# Altium integrated library Capacitor - Aluminium TH.IntLib: 4591 symbols (part 1 of 68)
Pins are listed as number, name and electrical type; pins without a type are passive.

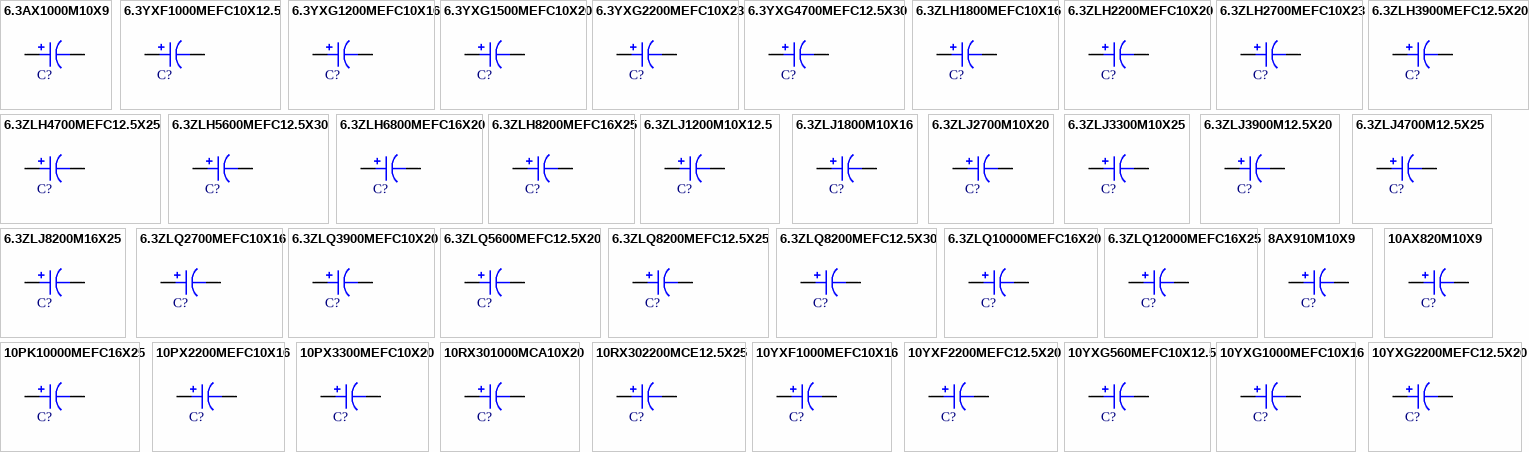
[diagram p0: symbols 6.3AX1000M10X9 to 10YXG2200MEFC12.5X20]

## 6.3AX1000M10X9
designator C?, comment 1000uF  (value not drawn)
CAP ALUM 1000UF 20% 6.3V RADIAL; Part Number: 6.3AX1000M10X9; Manufacturer: Rubycon; TemperatureRange: -40C ~ 105C; Ripple Current: 1.54A; Impedance: 36 mOhm; Value: 1000uF; PartId: 24462; Supplier 1: Digi-Key; Supplier Part Number 1: 1189-2334-ND; ComponentLink1Description: Datasheet; ComponentLink1URL: http://www.rubycon.co.jp/en/catalog/e_pdfs/aluminum/e_ax.pdf; ComponentLink2Description: Digi-Key Listing; ComponentLink2URL: https://www.digikey.com/product-detail/en/rubycon/6.3AX1000M10X9/1189-2334-ND/4842271; Tolerance: 20%; Voltage: 6.3V; Price: 0.52; Device Package: Radial, Can, 10mm
footprint CAP AL TH D10 L5 H12.5
pins: 1, 2

## 6.3YXF1000MEFC10X12.5
designator C?, comment 1000uF  (value not drawn)
CAP ALUM 1000UF 20% 6.3V RADIAL; Part Number: 6.3YXF1000MEFC10X12.5; Manufacturer: Rubycon; TemperatureRange: -40C ~ 105C; Type: Polar; Ripple Current: 435mA; Impedance: 160 mOhm; Value: 1000uF; PartId: 24942; Supplier 1: Digi-Key; Supplier Part Number 1: 1189-2347-ND; ComponentLink1Description: Datasheet; ComponentLink1URL: http://www.rubycon.co.jp/en/catalog/e_pdfs/aluminum/e_yxf.pdf; ComponentLink2Description: Digi-Key Listing; ComponentLink2URL: https://www.digikey.com/product-detail/en/rubycon/6.3YXF1000MEFC10X12.5/1189-2347-ND/3563582; Tolerance: 20%; Voltage: 6.3V; Price: 0.51; Device Package: Radial, Can, 10mm
footprint CAP AL TH D10 L5 H14.5
pins: 1, 2

## 6.3YXG1200MEFC10X16
designator C?, comment 1200uF  (value not drawn)
CAP ALUM 1200UF 20% 6.3V RADIAL; Part Number: 6.3YXG1200MEFC10X16; Manufacturer: Rubycon; TemperatureRange: -40C ~ 105C; Type: Polar; Ripple Current: 726mA @ 120Hz; Impedance: 60 mOhm; Value: 1200uF; PartId: 25225; Supplier 1: Digi-Key; Supplier Part Number 1: 1189-1445-ND; ComponentLink1Description: Datasheet; ComponentLink1URL: http://www.rubycon.co.jp/en/catalog/e_pdfs/aluminum/e_yxg.pdf; ComponentLink2Description: Digi-Key Listing; ComponentLink2URL: https://www.digikey.com/product-detail/en/rubycon/6.3YXG1200MEFC10X16/1189-1445-ND/3134401; Tolerance: 20%; Voltage: 6.3V; Price: 0.54; Device Package: Radial, Can, 10mm
footprint CAP AL TH D10 L5 H17.5
pins: 1, 2

## 6.3YXG1500MEFC10X20
designator C?, comment 1500uF  (value not drawn)
CAP ALUM 1500UF 20% 6.3V RADIAL; Part Number: 6.3YXG1500MEFC10X20; Manufacturer: Rubycon; TemperatureRange: -40C ~ 105C; Type: Polar; Ripple Current: 840mA @ 120Hz; Impedance: 46 mOhm; Value: 1500uF; PartId: 25864; Supplier 1: Digi-Key; Supplier Part Number 1: 1189-1760-ND; ComponentLink1Description: Datasheet; ComponentLink1URL: http://www.rubycon.co.jp/en/catalog/e_pdfs/aluminum/e_yxg.pdf; ComponentLink2Description: Digi-Key Listing; ComponentLink2URL: https://www.digikey.com/product-detail/en/rubycon/6.3YXG1500MEFC10X20/1189-1760-ND/3563793; Tolerance: 20%; Voltage: 6.3V; Price: 0.62; Device Package: Radial, Can, 10mm
footprint CAP AL TH D10 L5 H22
pins: 1, 2

## 6.3YXG2200MEFC10X23
designator C?, comment 2200uF  (value not drawn)
CAP ALUM 2200UF 20% 6.3V RADIAL; Part Number: 6.3YXG2200MEFC10X23; Manufacturer: Rubycon; TemperatureRange: -40C ~ 105C; Type: Polar; Ripple Current: 1.155A @ 120Hz; Impedance: 42 mOhm; Value: 2200uF; PartId: 26085; Supplier 1: Digi-Key; Supplier Part Number 1: 1189-1761-ND; ComponentLink1Description: Datasheet; ComponentLink1URL: http://www.rubycon.co.jp/en/catalog/e_pdfs/aluminum/e_yxg.pdf; ComponentLink2Description: Digi-Key Listing; ComponentLink2URL: https://www.digikey.com/product-detail/en/rubycon/6.3YXG2200MEFC10X23/1189-1761-ND/3563837; Tolerance: 20%; Voltage: 6.3V; Price: 0.73; Device Package: Radial, Can, 10mm
footprint CAP AL TH D10 L5 H30
pins: 1, 2

## 6.3YXG4700MEFC12.5X30
designator C?, comment 4700uF  (value not drawn)
CAP ALUM 4700UF 20% 6.3V RADIAL; Part Number: 6.3YXG4700MEFC12.5X30; Manufacturer: Rubycon; TemperatureRange: -40C ~ 105C; Type: Polar; Ripple Current: 1.855A @ 120Hz; Impedance: 24 mOhm; Value: 4700uF; PartId: 24228; Supplier 1: Digi-Key; Supplier Part Number 1: 1189-2909-ND; ComponentLink1Description: Datasheet; ComponentLink1URL: http://www.rubycon.co.jp/en/catalog/e_pdfs/aluminum/e_yxg.pdf; ComponentLink2Description: Digi-Key Listing; ComponentLink2URL: https://www.digikey.com/product-detail/en/rubycon/6.3YXG4700MEFC12.5X30/1189-2909-ND/3564176; Tolerance: 20%; Voltage: 6.3V; Price: 0.97; Device Package: Radial, Can, 12.5mm
footprint CAP AL TH D12.5 L5 H35.5
pins: 1, 2

## 6.3ZLH1800MEFC10X16
designator C?, comment 1800uF  (value not drawn)
CAP ALUM 1800UF 20% 6.3V RADIAL; Part Number: 6.3ZLH1800MEFC10X16; Manufacturer: Rubycon; TemperatureRange: -40C ~ 105C; Type: Polar; Ripple Current: 1.056A; Impedance: 28 mOhm; Value: 1800uF; PartId: 25263; Supplier 1: Digi-Key; Supplier Part Number 1: 1189-1454-ND; ComponentLink1Description: Datasheet; ComponentLink1URL: http://www.rubycon.co.jp/en/catalog/e_pdfs/aluminum/e_zlh.pdf; ComponentLink2Description: Digi-Key Listing; ComponentLink2URL: https://www.digikey.com/product-detail/en/rubycon/6.3ZLH1800MEFC10X16/1189-1454-ND/3134410; Tolerance: 20%; Voltage: 6.3V; Price: 0.59; Device Package: Radial, Can, 10mm
footprint CAP AL TH D10 L5 H17.5
pins: 1, 2

## 6.3ZLH2200MEFC10X20
designator C?, comment 2200uF  (value not drawn)
CAP ALUM 2200UF 20% 6.3V RADIAL; Part Number: 6.3ZLH2200MEFC10X20; Manufacturer: Rubycon; TemperatureRange: -40C ~ 105C; Type: Polar; Ripple Current: 1.372A; Impedance: 20 mOhm; Value: 2200uF; PartId: 25845; Supplier 1: Digi-Key; Supplier Part Number 1: 1189-1455-ND; ComponentLink1Description: Datasheet; ComponentLink1URL: http://www.rubycon.co.jp/en/catalog/e_pdfs/aluminum/e_zlh.pdf; ComponentLink2Description: Digi-Key Listing; ComponentLink2URL: https://www.digikey.com/product-detail/en/rubycon/6.3ZLH2200MEFC10X20/1189-1455-ND/3134411; Tolerance: 20%; Voltage: 6.3V; Price: 0.52; Device Package: Radial, Can, 10mm
footprint CAP AL TH D10 L5 H22
pins: 1, 2

## 6.3ZLH2700MEFC10X23
designator C?, comment 2700uF  (value not drawn)
CAP ALUM 2700UF 20% 6.3V RADIAL; Part Number: 6.3ZLH2700MEFC10X23; Manufacturer: Rubycon; TemperatureRange: -40C ~ 105C; Type: Polar; Ripple Current: 1.575A @ 120Hz; Impedance: 18 mOhm; Value: 2700uF; PartId: 26057; Supplier 1: Digi-Key; Supplier Part Number 1: 1189-3020-ND; ComponentLink1Description: Datasheet; ComponentLink1URL: http://www.rubycon.co.jp/en/catalog/e_pdfs/aluminum/e_zlh.pdf; ComponentLink2Description: Digi-Key Listing; ComponentLink2URL: https://www.digikey.com/product-detail/en/rubycon/6.3ZLH2700MEFC10X23/1189-3020-ND/3563864; Tolerance: 20%; Voltage: 6.3V; Price: 0.66; Device Package: Radial, Can, 10mm
footprint CAP AL TH D10 L5 H30
pins: 1, 2

## 6.3ZLH3900MEFC12.5X20
designator C?, comment 3900uF  (value not drawn)
CAP ALUM 3900UF 20% 6.3V RADIAL; Part Number: 6.3ZLH3900MEFC12.5X20; Manufacturer: Rubycon; TemperatureRange: -40C ~ 105C; Type: Polar; Ripple Current: 1.736A; Impedance: 17 mOhm; Value: 3900uF; PartId: 23353; Supplier 1: Digi-Key; Supplier Part Number 1: 1189-1763-ND; ComponentLink1Description: Datasheet; ComponentLink1URL: http://www.rubycon.co.jp/en/catalog/e_pdfs/aluminum/e_zlh.pdf; ComponentLink2Description: Digi-Key Listing; ComponentLink2URL: https://www.digikey.com/product-detail/en/rubycon/6.3ZLH3900MEFC12.5X20/1189-1763-ND/3564061; Tolerance: 20%; Voltage: 6.3V; Price: 0.85; Device Package: Radial, Can, 12.5mm
footprint CAP AL TH D12.5 L5 H22
pins: 1, 2

## 6.3ZLH4700MEFC12.5X25
designator C?, comment 4700uF  (value not drawn)
CAP ALUM 4700UF 20% 6.3V RADIAL; Part Number: 6.3ZLH4700MEFC12.5X25; Manufacturer: Rubycon; TemperatureRange: -40C ~ 105C; Type: Polar; Ripple Current: 2.03A; Impedance: 15 mOhm; Value: 4700uF; PartId: 23936; Supplier 1: Digi-Key; Supplier Part Number 1: 1189-1457-ND; ComponentLink1Description: Datasheet; ComponentLink1URL: http://www.rubycon.co.jp/en/catalog/e_pdfs/aluminum/e_zlh.pdf; ComponentLink2Description: Digi-Key Listing; ComponentLink2URL: https://www.digikey.com/product-detail/en/rubycon/6.3ZLH4700MEFC12.5X25/1189-1457-ND/3134413; Tolerance: 20%; Voltage: 6.3V; Price: 0.97; Device Package: Radial, Can, 12.5mm
footprint CAP AL TH D12.5 L5 H27
pins: 1, 2

## 6.3ZLH5600MEFC12.5X30
designator C?, comment 5600uF  (value not drawn)
CAP ALUM 5600UF 20% 6.3V RADIAL; Part Number: 6.3ZLH5600MEFC12.5X30; Manufacturer: Rubycon; TemperatureRange: -40C ~ 105C; Type: Polar; Ripple Current: 2.415A @ 120Hz; Impedance: 13 mOhm; Value: 5600uF; PartId: 24267; Supplier 1: Digi-Key; Supplier Part Number 1: 1189-3021-ND; ComponentLink1Description: Datasheet; ComponentLink1URL: http://www.rubycon.co.jp/en/catalog/e_pdfs/aluminum/e_zlh.pdf; ComponentLink2Description: Digi-Key Listing; ComponentLink2URL: https://www.digikey.com/product-detail/en/rubycon/6.3ZLH5600MEFC12.5X30/1189-3021-ND/3564201; Tolerance: 20%; Voltage: 6.3V; Price: 1.05; Device Package: Radial, Can, 12.5mm
footprint CAP AL TH D12.5 L5 H35.5
pins: 1, 2

## 6.3ZLH6800MEFC16X20
designator C?, comment 6800uF  (value not drawn)
CAP ALUM 6800UF 20% 6.3V RADIAL; Part Number: 6.3ZLH6800MEFC16X20; Manufacturer: Rubycon; TemperatureRange: -40C ~ 105C; Type: Polar; Ripple Current: 2.275A @ 120Hz; Impedance: 15 mOhm; Value: 6800uF; PartId: 26422; Supplier 1: Digi-Key; Supplier Part Number 1: 1189-3023-ND; ComponentLink1Description: Datasheet; ComponentLink1URL: http://www.rubycon.co.jp/en/catalog/e_pdfs/aluminum/e_zlh.pdf; ComponentLink2Description: Digi-Key Listing; ComponentLink2URL: https://www.digikey.com/product-detail/en/rubycon/6.3ZLH6800MEFC16X20/1189-3023-ND/3564403; Tolerance: 20%; Voltage: 6.3V; Price: 1.24; Device Package: Radial, Can, 16mm
footprint CAP AL TH D16 L7.5 H22
pins: 1, 2

## 6.3ZLH8200MEFC16X25
designator C?, comment 8200uF  (value not drawn)
CAP ALUM 8200UF 20% 6.3V RADIAL; Part Number: 6.3ZLH8200MEFC16X25; Manufacturer: Rubycon; TemperatureRange: -40C ~ 105C; Type: Polar; Ripple Current: 2.541A @ 120Hz; Impedance: 13 mOhm; Value: 8200uF; PartId: 26894; Supplier 1: Digi-Key; Supplier Part Number 1: 1189-3024-ND; ComponentLink1Description: Datasheet; ComponentLink1URL: http://www.rubycon.co.jp/en/catalog/e_pdfs/aluminum/e_zlh.pdf; ComponentLink2Description: Digi-Key Listing; ComponentLink2URL: https://www.digikey.com/product-detail/en/rubycon/6.3ZLH8200MEFC16X25/1189-3024-ND/3564488; Tolerance: 20%; Voltage: 6.3V; Price: 1.43; Device Package: Radial, Can, 16mm
footprint CAP AL TH D16 L7.5 H27
pins: 1, 2

## 6.3ZLJ1200M10X12.5
designator C?, comment 1200uF  (value not drawn)
CAP ALUM 1200UF 20% 6.3V RADIAL; Part Number: 6.3ZLJ1200M10X12.5; Manufacturer: Rubycon; TemperatureRange: -40C ~ 105C; Type: Polar; Ripple Current: 798mA @ 120Hz; Impedance: 53 mOhm; Value: 1200uF; PartId: 24923; Supplier 1: Digi-Key; Supplier Part Number 1: 1189-1461-ND; ComponentLink1Description: Datasheet; ComponentLink1URL: http://www.rubycon.co.jp/en/catalog/e_pdfs/aluminum/e_zlj.pdf; ComponentLink2Description: Digi-Key Listing; ComponentLink2URL: https://www.digikey.com/product-detail/en/rubycon/6.3ZLJ1200M10X12.5/1189-1461-ND/3134417; Tolerance: 20%; Voltage: 6.3V; Price: 0.5; Device Package: Radial, Can, 10mm
footprint CAP AL TH D10 L5 H14.5
pins: 1, 2

## 6.3ZLJ1800M10X16
designator C?, comment 1800uF  (value not drawn)
CAP ALUM 1800UF 20% 6.3V RADIAL; Part Number: 6.3ZLJ1800M10X16; Manufacturer: Rubycon; TemperatureRange: -40C ~ 105C; Type: Polar; Ripple Current: 1.056A @ 120Hz; Impedance: 38 mOhm; Value: 1800uF; PartId: 25322; Supplier 1: Digi-Key; Supplier Part Number 1: 1189-1463-ND; ComponentLink1Description: Datasheet; ComponentLink1URL: http://www.rubycon.co.jp/en/catalog/e_pdfs/aluminum/e_zlj.pdf; ComponentLink2Description: Digi-Key Listing; ComponentLink2URL: https://www.digikey.com/product-detail/en/rubycon/6.3ZLJ1800M10X16/1189-1463-ND/3134419; Tolerance: 20%; Voltage: 6.3V; Price: 0.66; Device Package: Radial, Can, 10mm
footprint CAP AL TH D10 L5 H17.5
pins: 1, 2

## 6.3ZLJ2700M10X20
designator C?, comment 2700uF  (value not drawn)
CAP ALUM 2700UF 20% 6.3V RADIAL; Part Number: 6.3ZLJ2700M10X20; Manufacturer: Rubycon; TemperatureRange: -40C ~ 105C; Type: Polar; Ripple Current: 1.372A @ 120Hz; Impedance: 28 mOhm; Value: 2700uF; PartId: 25929; Supplier 1: Digi-Key; Supplier Part Number 1: 1189-1465-ND; ComponentLink1Description: Datasheet; ComponentLink1URL: http://www.rubycon.co.jp/en/catalog/e_pdfs/aluminum/e_zlj.pdf; ComponentLink2Description: Digi-Key Listing; ComponentLink2URL: https://www.digikey.com/product-detail/en/rubycon/6.3ZLJ2700M10X20/1189-1465-ND/3134421; Tolerance: 20%; Voltage: 6.3V; Price: 0.73; Device Package: Radial, Can, 10mm
footprint CAP AL TH D10 L5 H22
pins: 1, 2

## 6.3ZLJ3300M10X25
designator C?, comment 3300uF  (value not drawn)
CAP ALUM 3300UF 20% 6.3V RADIAL; Part Number: 6.3ZLJ3300M10X25; Manufacturer: Rubycon; TemperatureRange: -40C ~ 105C; Type: Polar; Ripple Current: 1.575A @ 120Hz; Impedance: 24 mOhm; Value: 3300uF; PartId: 26098; Supplier 1: Digi-Key; Supplier Part Number 1: 1189-1466-ND; ComponentLink1Description: Datasheet; ComponentLink1URL: http://www.rubycon.co.jp/en/catalog/e_pdfs/aluminum/e_zlj.pdf; ComponentLink2Description: Digi-Key Listing; ComponentLink2URL: https://www.digikey.com/product-detail/en/rubycon/6.3ZLJ3300M10X25/1189-1466-ND/3134422; Tolerance: 20%; Voltage: 6.3V; Price: 0.75; Device Package: Radial, Can, 10mm
footprint CAP AL TH D10 L5 H30
pins: 1, 2

## 6.3ZLJ3900M12.5X20
designator C?, comment 3900uF  (value not drawn)
CAP ALUM 3900UF 20% 6.3V RADIAL; Part Number: 6.3ZLJ3900M12.5X20; Manufacturer: Rubycon; TemperatureRange: -40C ~ 105C; Type: Polar; Ripple Current: 1.736A @ 120Hz; Impedance: 25 mOhm; Value: 3900uF; PartId: 23454; Supplier 1: Digi-Key; Supplier Part Number 1: 1189-1467-ND; ComponentLink1Description: Datasheet; ComponentLink1URL: http://www.rubycon.co.jp/en/catalog/e_pdfs/aluminum/e_zlj.pdf; ComponentLink2Description: Digi-Key Listing; ComponentLink2URL: https://www.digikey.com/product-detail/en/rubycon/6.3ZLJ3900M12.5X20/1189-1467-ND/3134423; Tolerance: 20%; Voltage: 6.3V; Price: 1.04; Device Package: Radial, Can, 12.5mm
footprint CAP AL TH D12.5 L5 H22
pins: 1, 2

## 6.3ZLJ4700M12.5X25
designator C?, comment 4700uF  (value not drawn)
CAP ALUM 4700UF 20% 6.3V RADIAL; Part Number: 6.3ZLJ4700M12.5X25; Manufacturer: Rubycon; TemperatureRange: -40C ~ 105C; Type: Polar; Ripple Current: 2.03A @ 120Hz; Impedance: 19 mOhm; Value: 4700uF; PartId: 24089; Supplier 1: Digi-Key; Supplier Part Number 1: 1189-1468-ND; ComponentLink1Description: Datasheet; ComponentLink1URL: http://www.rubycon.co.jp/en/catalog/e_pdfs/aluminum/e_zlj.pdf; ComponentLink2Description: Digi-Key Listing; ComponentLink2URL: https://www.digikey.com/product-detail/en/rubycon/6.3ZLJ4700M12.5X25/1189-1468-ND/3134424; Tolerance: 20%; Voltage: 6.3V; Price: 1.25; Device Package: Radial, Can, 12.5mm
footprint CAP AL TH D12.5 L5 H27
pins: 1, 2

## 6.3ZLJ8200M16X25
designator C?, comment 8200uF  (value not drawn)
CAP ALUM 8200UF 20% 6.3V RADIAL; Part Number: 6.3ZLJ8200M16X25; Manufacturer: Rubycon; TemperatureRange: -40C ~ 105C; Type: Polar; Ripple Current: 2.541A @ 120Hz; Impedance: 17 mOhm; Value: 8200uF; PartId: 26928; Supplier 1: Digi-Key; Supplier Part Number 1: 1189-1470-ND; ComponentLink1Description: Datasheet; ComponentLink1URL: http://www.rubycon.co.jp/en/catalog/e_pdfs/aluminum/e_zlj.pdf; ComponentLink2Description: Digi-Key Listing; ComponentLink2URL: https://www.digikey.com/product-detail/en/rubycon/6.3ZLJ8200M16X25/1189-1470-ND/3134426; Tolerance: 20%; Voltage: 6.3V; Price: 1.76; Device Package: Radial, Can, 16mm
footprint CAP AL TH D16 L7.5 H27
pins: 1, 2

## 6.3ZLQ2700MEFC10X16
designator C?, comment 2700uF  (value not drawn)
CAP ALUM 2700UF 20% 6.3V T/H; Part Number: 6.3ZLQ2700MEFC10X16; Manufacturer: Rubycon; TemperatureRange: -40C ~ 105C; Type: Polar; Ripple Current: 1.351A @ 120Hz; Impedance: 25 mOhm; Value: 2700uF; PartId: 25447; Supplier 1: Digi-Key; Supplier Part Number 1: 1189-3602-ND; ComponentLink1Description: Datasheet; ComponentLink1URL: http://www.rubycon.co.jp/en/catalog/e_pdfs/aluminum/e_ZLQ.pdf; ComponentLink2Description: Digi-Key Listing; ComponentLink2URL: https://www.digikey.com/product-detail/en/rubycon/6.3ZLQ2700MEFC10X16/1189-3602-ND/6049859; Tolerance: 20%; Voltage: 6.3V; Price: 0.69; Device Package: Radial, Can, 10mm
footprint CAP AL TH D10 L5 H17.5
pins: 1, 2

## 6.3ZLQ3900MEFC10X20
designator C?, comment 3900uF  (value not drawn)
CAP ALUM 3900UF 20% 6.3V T/H; Part Number: 6.3ZLQ3900MEFC10X20; Manufacturer: Rubycon; TemperatureRange: -40C ~ 105C; Type: Polar; Ripple Current: 1.491A @ 120Hz; Impedance: 18 mOhm; Value: 3900uF; PartId: 25914; Supplier 1: Digi-Key; Supplier Part Number 1: 1189-3603-ND; ComponentLink1Description: Datasheet; ComponentLink1URL: http://www.rubycon.co.jp/en/catalog/e_pdfs/aluminum/e_ZLQ.pdf; ComponentLink2Description: Digi-Key Listing; ComponentLink2URL: https://www.digikey.com/product-detail/en/rubycon/6.3ZLQ3900MEFC10X20/1189-3603-ND/6049860; Tolerance: 20%; Voltage: 6.3V; Price: 0.7; Device Package: Radial, Can, 10mm
footprint CAP AL TH D10 L5 H22
pins: 1, 2

## 6.3ZLQ5600MEFC12.5X20
designator C?, comment 5600uF  (value not drawn)
CAP ALUM 5600UF 20% 6.3V T/H; Part Number: 6.3ZLQ5600MEFC12.5X20; Manufacturer: Rubycon; TemperatureRange: -40C ~ 105C; Type: Polar; Ripple Current: 1.883A @ 120Hz; Impedance: 16 mOhm; Value: 5600uF; PartId: 23433; Supplier 1: Digi-Key; Supplier Part Number 1: 1189-3605-ND; ComponentLink1Description: Datasheet; ComponentLink1URL: http://www.rubycon.co.jp/en/catalog/e_pdfs/aluminum/e_ZLQ.pdf; ComponentLink2Description: Digi-Key Listing; ComponentLink2URL: https://www.digikey.com/product-detail/en/rubycon/6.3ZLQ5600MEFC12.5X20/1189-3605-ND/6049994; Tolerance: 20%; Voltage: 6.3V; Price: 1.01; Device Package: Radial, Can, 12.5mm
footprint CAP AL TH D12.5 L5 H22
pins: 1, 2

## 6.3ZLQ8200MEFC12.5X25
designator C?, comment 8200uF  (value not drawn)
CAP ALUM 8200UF 20% 6.3V T/H; Part Number: 6.3ZLQ8200MEFC12.5X25; Manufacturer: Rubycon; TemperatureRange: -40C ~ 105C; Type: Polar; Ripple Current: 2.198A @ 120Hz; Impedance: 13 mOhm; Value: 8200uF; PartId: 24033; Supplier 1: Digi-Key; Supplier Part Number 1: 1189-3607-ND; ComponentLink1Description: Datasheet; ComponentLink1URL: http://www.rubycon.co.jp/en/catalog/e_pdfs/aluminum/e_ZLQ.pdf; ComponentLink2Description: Digi-Key Listing; ComponentLink2URL: https://www.digikey.com/product-detail/en/rubycon/6.3ZLQ8200MEFC12.5X25/1189-3607-ND/6049996; Tolerance: 20%; Voltage: 6.3V; Price: 1.11; Device Package: Radial, Can, 12.5mm
footprint CAP AL TH D12.5 L5 H27
pins: 1, 2

## 6.3ZLQ8200MEFC12.5X30
designator C?, comment 8200uF  (value not drawn)
CAP ALUM 8200UF 20% 6.3V T/H; Part Number: 6.3ZLQ8200MEFC12.5X30; Manufacturer: Rubycon; TemperatureRange: -40C ~ 105C; Type: Polar; Ripple Current: 2.576A @ 120Hz; Impedance: 12 mOhm; Value: 8200uF; PartId: 24299; Supplier 1: Digi-Key; Supplier Part Number 1: 1189-3606-ND; ComponentLink1Description: Datasheet; ComponentLink1URL: http://www.rubycon.co.jp/en/catalog/e_pdfs/aluminum/e_ZLQ.pdf; ComponentLink2Description: Digi-Key Listing; ComponentLink2URL: https://www.digikey.com/product-detail/en/rubycon/6.3ZLQ8200MEFC12.5X30/1189-3606-ND/6049995; Tolerance: 20%; Voltage: 6.3V; Price: 1.19; Device Package: Radial, Can, 12.5mm
footprint CAP AL TH D12.5 L5 H35.5
pins: 1, 2

## 6.3ZLQ10000MEFC16X20
designator C?, comment 10000uF  (value not drawn)
CAP ALUM 10000UF 20% 6.3V T/H; Part Number: 6.3ZLQ10000MEFC16X20; Manufacturer: Rubycon; TemperatureRange: -40C ~ 105C; Type: Polar; Ripple Current: 2.45A @ 120Hz; Impedance: 14 mOhm; Value: 10000uF; PartId: 26445; Supplier 1: Digi-Key; Supplier Part Number 1: 1189-3609-ND; ComponentLink1Description: Datasheet; ComponentLink1URL: http://www.rubycon.co.jp/en/catalog/e_pdfs/aluminum/e_ZLQ.pdf; ComponentLink2Description: Digi-Key Listing; ComponentLink2URL: https://www.digikey.com/product-detail/en/rubycon/6.3ZLQ10000MEFC16X20/1189-3609-ND/6050183; Tolerance: 20%; Voltage: 6.3V; Price: 1.45; Device Package: Radial, Can, 16mm
footprint CAP AL TH D16 L7.5 H22
pins: 1, 2

## 6.3ZLQ12000MEFC16X25
designator C?, comment 12000uF  (value not drawn)
CAP ALUM 12000UF 20% 6.3V T/H; Part Number: 6.3ZLQ12000MEFC16X25; Manufacturer: Rubycon; TemperatureRange: -40C ~ 105C; Type: Polar; Ripple Current: 2.716A @ 120Hz; Impedance: 11 mOhm; Value: 12000uF; PartId: 26902; Supplier 1: Digi-Key; Supplier Part Number 1: 1189-3610-ND; ComponentLink1Description: Datasheet; ComponentLink1URL: http://www.rubycon.co.jp/en/catalog/e_pdfs/aluminum/e_ZLQ.pdf; ComponentLink2Description: Digi-Key Listing; ComponentLink2URL: https://www.digikey.com/product-detail/en/rubycon/6.3ZLQ12000MEFC16X25/1189-3610-ND/6050184; Tolerance: 20%; Voltage: 6.3V; Price: 1.55; Device Package: Radial, Can, 16mm
footprint CAP AL TH D16 L7.5 H27
pins: 1, 2

## 8AX910M10X9
designator C?, comment 910uF  (value not drawn)
CAP ALUM 910UF 20% 8V RADIAL; Part Number: 8AX910M10X9; Manufacturer: Rubycon; TemperatureRange: -40C ~ 105C; Ripple Current: 1.54A; Impedance: 36 mOhm; Value: 910uF; PartId: 24463; Supplier 1: Digi-Key; Supplier Part Number 1: 1189-2381-ND; ComponentLink1Description: Datasheet; ComponentLink1URL: http://www.rubycon.co.jp/en/catalog/e_pdfs/aluminum/e_ax.pdf; ComponentLink2Description: Digi-Key Listing; ComponentLink2URL: https://www.digikey.com/product-detail/en/rubycon/8AX910M10X9/1189-2381-ND/4842285; Tolerance: 20%; Voltage: 8V; Price: 0.52; Device Package: Radial, Can, 10mm
footprint CAP AL TH D10 L5 H12.5
pins: 1, 2

## 10AX820M10X9
designator C?, comment 820uF  (value not drawn)
CAP ALUM 820UF 20% 10V RADIAL; Part Number: 10AX820M10X9; Manufacturer: Rubycon; TemperatureRange: -40C ~ 105C; Ripple Current: 1.54A; Impedance: 36 mOhm; Value: 820uF; PartId: 24460; Supplier 1: Digi-Key; Supplier Part Number 1: 1189-2164-ND; ComponentLink1Description: Datasheet; ComponentLink1URL: http://www.rubycon.co.jp/en/catalog/e_pdfs/aluminum/e_ax.pdf; ComponentLink2Description: Digi-Key Listing; ComponentLink2URL: https://www.digikey.com/product-detail/en/rubycon/10AX820M10X9/1189-2164-ND/4842243; Tolerance: 20%; Voltage: 10V; Price: 0.51; Device Package: Radial, Can, 10mm
footprint CAP AL TH D10 L5 H12.5
pins: 1, 2

## 10PK10000MEFC16X25
designator C?, comment 10000uF  (value not drawn)
CAP ALUM 10000UF 20% 10V RADIAL; Part Number: 10PK10000MEFC16X25; Manufacturer: Rubycon; TemperatureRange: -40C ~ 85C; Ripple Current: 2.27A; Value: 10000uF; PartId: 26929; Supplier 1: Digi-Key; Supplier Part Number 1: 1189-2168-ND; ComponentLink1Description: Datasheet; ComponentLink1URL: http://www.rubycon.co.jp/en/catalog/e_pdfs/aluminum/e_pk.pdf; ComponentLink2Description: Digi-Key Listing; ComponentLink2URL: https://www.digikey.com/product-detail/en/rubycon/10PK10000MEFC16X25/1189-2168-ND/3564436; Tolerance: 20%; Voltage: 10V; Price: 1.78; Device Package: Radial, Can, 16mm
footprint CAP AL TH D16 L7.5 H27
pins: 1, 2

## 10PX2200MEFC10X16
designator C?, comment 2200uF  (value not drawn)
CAP ALUM 2200UF 20% 10V RADIAL; Part Number: 10PX2200MEFC10X16; Manufacturer: Rubycon; TemperatureRange: -55C ~ 105C; Type: Polar; Ripple Current: 860mA; Value: 2200uF; PartId: 25237; Supplier 1: Digi-Key; Supplier Part Number 1: 1189-1055-ND; ComponentLink1Description: Datasheet; ComponentLink1URL: http://www.rubycon.co.jp/en/catalog/e_pdfs/aluminum/e_px.pdf; ComponentLink2Description: Digi-Key Listing; ComponentLink2URL: https://www.digikey.com/product-detail/en/rubycon/10PX2200MEFC10X16/1189-1055-ND/3133988; Tolerance: 20%; Voltage: 10V; Price: 0.56; Device Package: Radial, Can, 10mm
footprint CAP AL TH D10 L5 H17.5
pins: 1, 2

## 10PX3300MEFC10X20
designator C?, comment 3300uF  (value not drawn)
CAP ALUM 3300UF 20% 10V RADIAL; Part Number: 10PX3300MEFC10X20; Manufacturer: Rubycon; TemperatureRange: -55C ~ 105C; Type: Polar; Ripple Current: 1.1A; Value: 3300uF; PartId: 25626; Supplier 1: Digi-Key; Supplier Part Number 1: 1189-1056-ND; ComponentLink1Description: Datasheet; ComponentLink1URL: http://www.rubycon.co.jp/en/catalog/e_pdfs/aluminum/e_px.pdf; ComponentLink2Description: Digi-Key Listing; ComponentLink2URL: https://www.digikey.com/product-detail/en/rubycon/10PX3300MEFC10X20/1189-1056-ND/3133989; Tolerance: 20%; Voltage: 10V; Price: 0.72; Device Package: Radial, Can, 10mm
footprint CAP AL TH D10 L5 H22
pins: 1, 2

## 10RX301000MCA10X20
designator C?, comment 1000uF  (value not drawn)
CAP ALUM 1000UF 20% 10V RADIAL; Part Number: 10RX301000MCA10X20; Manufacturer: Rubycon; TemperatureRange: -40C ~ 130C; Type: Polar; Ripple Current: 720mA; Impedance: 73 mOhm; Value: 1000uF; PartId: 25941; Supplier 1: Digi-Key; Supplier Part Number 1: 1189-1057-ND; ComponentLink1Description: Datasheet; ComponentLink1URL: http://www.rubycon.co.jp/en/catalog/e_pdfs/aluminum/e_rx30.pdf; ComponentLink2Description: Digi-Key Listing; ComponentLink2URL: https://www.digikey.com/product-detail/en/rubycon/10RX301000MCA10X20/1189-1057-ND/3133991; Tolerance: 20%; Voltage: 10V; Price: 0.74; Device Package: Radial, Can, 10mm
footprint CAP AL TH D10 L5 H22
pins: 1, 2

## 10RX302200MCE12.5X25
designator C?, comment 2200uF  (value not drawn)
CAP ALUM 2200UF 20% 10V RADIAL; Part Number: 10RX302200MCE12.5X25; Manufacturer: Rubycon; TemperatureRange: -40C ~ 130C; Type: Polar; Ripple Current: 1.1A; Impedance: 40 mOhm; Value: 2200uF; PartId: 24061; Supplier 1: Digi-Key; Supplier Part Number 1: 1189-1058-ND; ComponentLink1Description: Datasheet; ComponentLink1URL: http://www.rubycon.co.jp/en/catalog/e_pdfs/aluminum/e_rx30.pdf; ComponentLink2Description: Digi-Key Listing; ComponentLink2URL: https://www.digikey.com/product-detail/en/rubycon/10RX302200MCE12.5X25/1189-1058-ND/3133992; Tolerance: 20%; Voltage: 10V; Price: 1.18; Device Package: Radial, Can, 12.5mm
footprint CAP AL TH D12.5 L5 H27
pins: 1, 2

## 10YXF1000MEFC10X16
designator C?, comment 1000uF  (value not drawn)
CAP ALUM 1000UF 20% 10V RADIAL; Part Number: 10YXF1000MEFC10X16; Manufacturer: Rubycon; TemperatureRange: -40C ~ 105C; Type: Polar; Ripple Current: 562.5mA; Impedance: 120 mOhm; Value: 1000uF; PartId: 25149; Supplier 1: Digi-Key; Supplier Part Number 1: 1189-1877-ND; ComponentLink1Description: Datasheet; ComponentLink1URL: http://www.rubycon.co.jp/en/catalog/e_pdfs/aluminum/e_yxf.pdf; ComponentLink2Description: Digi-Key Listing; ComponentLink2URL: https://www.digikey.com/product-detail/en/rubycon/10YXF1000MEFC10X16/1189-1877-ND/3563691; Tolerance: 20%; Voltage: 10V; Price: 0.42; Device Package: Radial, Can, 10mm
footprint CAP AL TH D10 L5 H17.5
pins: 1, 2

## 10YXF2200MEFC12.5X20
designator C?, comment 2200uF  (value not drawn)
CAP ALUM 2200UF 20% 10V RADIAL; Part Number: 10YXF2200MEFC12.5X20; Manufacturer: Rubycon; TemperatureRange: -40C ~ 105C; Type: Polar; Ripple Current: 1A; Impedance: 62 mOhm; Value: 2200uF; PartId: 23316; Supplier 1: Digi-Key; Supplier Part Number 1: 1189-2169-ND; ComponentLink1Description: Datasheet; ComponentLink1URL: http://www.rubycon.co.jp/en/catalog/e_pdfs/aluminum/e_yxf.pdf; ComponentLink2Description: Digi-Key Listing; ComponentLink2URL: https://www.digikey.com/product-detail/en/rubycon/10YXF2200MEFC12.5X20/1189-2169-ND/3564026; Tolerance: 20%; Voltage: 10V; Price: 0.82; Device Package: Radial, Can, 12.5mm
footprint CAP AL TH D12.5 L5 H22
pins: 1, 2

## 10YXG560MEFC10X12.5
designator C?, comment 560uF  (value not drawn)
CAP ALUM 560UF 20% 10V RADIAL; Part Number: 10YXG560MEFC10X12.5; Manufacturer: Rubycon; TemperatureRange: -40C ~ 105C; Value: 560uF; PartId: 24786; Supplier 1: Digi-Key; Supplier Part Number 1: 1189-1715-ND; ComponentLink1Description: Datasheet; ComponentLink1URL: http://www.rubycon.co.jp/en/catalog/e_pdfs/aluminum/e_yxg.pdf; ComponentLink2Description: Digi-Key Listing; ComponentLink2URL: https://www.digikey.com/product-detail/en/rubycon/10YXG560MEFC10X12.5/1189-1715-ND/3563583; Tolerance: 20%; Voltage: 10V; Price: 0.44; Device Package: Radial, Can, 10mm
footprint CAP AL TH D10 L5 H14.5
pins: 1, 2

## 10YXG1000MEFC10X16
designator C?, comment 1000uF  (value not drawn)
CAP ALUM 1000UF 20% 10V RADIAL; Part Number: 10YXG1000MEFC10X16; Manufacturer: Rubycon; TemperatureRange: -40C ~ 105C; Type: Polar; Ripple Current: 726mA @ 120Hz; Impedance: 60 mOhm; Value: 1000uF; PartId: 25210; Supplier 1: Digi-Key; Supplier Part Number 1: 1189-1901-ND; ComponentLink1Description: Datasheet; ComponentLink1URL: http://www.rubycon.co.jp/en/catalog/e_pdfs/aluminum/e_yxg.pdf; ComponentLink2Description: Digi-Key Listing; ComponentLink2URL: https://www.digikey.com/product-detail/en/rubycon/10YXG1000MEFC10X16/1189-1901-ND/3563697; Tolerance: 20%; Voltage: 10V; Price: 0.51; Device Package: Radial, Can, 10mm
footprint CAP AL TH D10 L5 H17.5
pins: 1, 2

## 10YXG2200MEFC12.5X20
designator C?, comment 2200uF  (value not drawn)
CAP ALUM 2200UF 20% 10V RADIAL; Part Number: 10YXG2200MEFC12.5X20; Manufacturer: Rubycon; TemperatureRange: -40C ~ 105C; Type: Polar; Ripple Current: 1.33A @ 120Hz; Impedance: 35 mOhm; Value: 2200uF; PartId: 23304; Supplier 1: Digi-Key; Supplier Part Number 1: 1189-2170-ND; ComponentLink1Description: Datasheet; ComponentLink1URL: http://www.rubycon.co.jp/en/catalog/e_pdfs/aluminum/e_yxg.pdf; ComponentLink2Description: Digi-Key Listing; ComponentLink2URL: https://www.digikey.com/product-detail/en/rubycon/10YXG2200MEFC12.5X20/1189-2170-ND/3564034; Tolerance: 20%; Voltage: 10V; Price: 0.81; Device Package: Radial, Can, 12.5mm
footprint CAP AL TH D12.5 L5 H22
pins: 1, 2

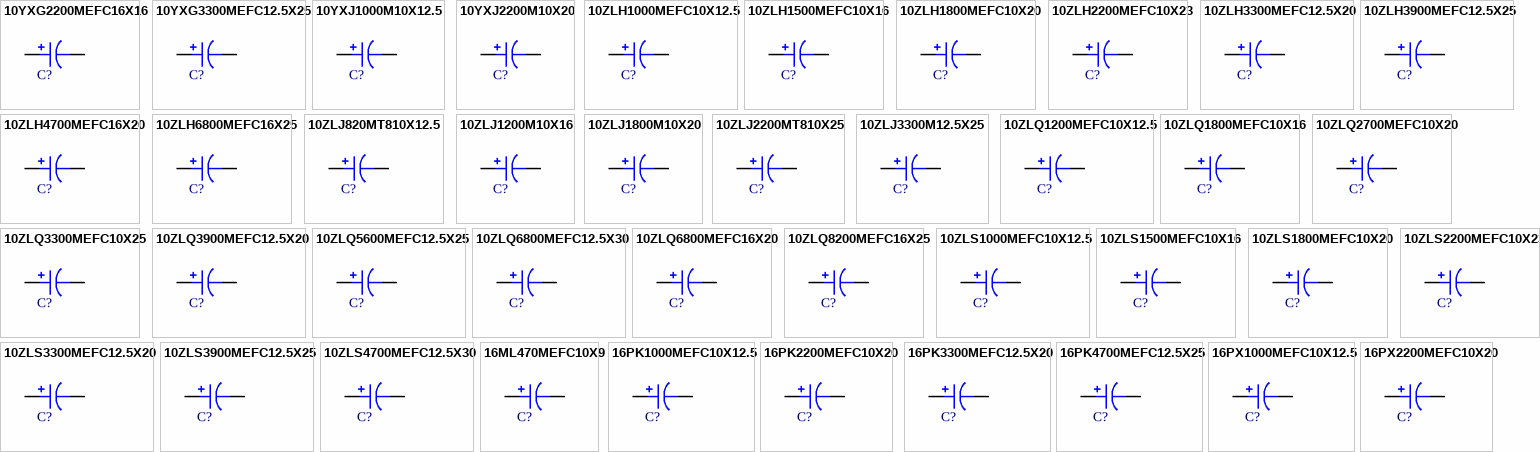
[diagram p1: symbols 10YXG2200MEFC16X16 to 16PX2200MEFC10X20]

## 10YXG2200MEFC16X16
designator C?, comment 2200uF  (value not drawn)
CAP ALUM 2200UF 20% 10V RADIAL; Part Number: 10YXG2200MEFC16X16; Manufacturer: Rubycon; TemperatureRange: -40C ~ 105C; Type: Polar; Ripple Current: 1.358A @ 120Hz; Impedance: 42 mOhm; Value: 2200uF; PartId: 26285; Supplier 1: Digi-Key; Supplier Part Number 1: 1189-1062-ND; ComponentLink1Description: Datasheet; ComponentLink1URL: http://www.rubycon.co.jp/en/catalog/e_pdfs/aluminum/e_yxg.pdf; ComponentLink2Description: Digi-Key Listing; ComponentLink2URL: https://www.digikey.com/product-detail/en/rubycon/10YXG2200MEFC16X16/1189-1062-ND/3133999; Tolerance: 20%; Voltage: 10V; Price: 1.01; Device Package: Radial, Can, 16mm
footprint CAP AL TH D16 L7.5 H20
pins: 1, 2

## 10YXG3300MEFC12.5X25
designator C?, comment 3300uF  (value not drawn)
CAP ALUM 3300UF 20% 10V RADIAL; Part Number: 10YXG3300MEFC12.5X25; Manufacturer: Rubycon; TemperatureRange: -40C ~ 105C; Type: Polar; Ripple Current: 1.561A @ 120Hz; Impedance: 27 mOhm; Value: 3300uF; PartId: 23909; Supplier 1: Digi-Key; Supplier Part Number 1: 1189-1714-ND; ComponentLink1Description: Datasheet; ComponentLink1URL: http://www.rubycon.co.jp/en/catalog/e_pdfs/aluminum/e_yxg.pdf; ComponentLink2Description: Digi-Key Listing; ComponentLink2URL: https://www.digikey.com/product-detail/en/rubycon/10YXG3300MEFC12.5X25/1189-1714-ND/3564118; Tolerance: 20%; Voltage: 10V; Price: 0.91; Device Package: Radial, Can, 12.5mm
footprint CAP AL TH D12.5 L5 H27
pins: 1, 2

## 10YXJ1000M10X12.5
designator C?, comment 1000uF  (value not drawn)
CAP ALUM 1000UF 20% 10V RADIAL; Part Number: 10YXJ1000M10X12.5; Manufacturer: Rubycon; TemperatureRange: -40C ~ 105C; Type: Polar; Ripple Current: 865mA; Impedance: 80 mOhm; Value: 1000uF; PartId: 24938; Supplier 1: Digi-Key; Supplier Part Number 1: 1189-1067-ND; ComponentLink1Description: Datasheet; ComponentLink1URL: http://www.rubycon.co.jp/en/catalog/e_pdfs/aluminum/e_yxj.pdf; ComponentLink2Description: Digi-Key Listing; ComponentLink2URL: https://www.digikey.com/product-detail/en/rubycon/10YXJ1000M10X12.5/1189-1067-ND/3134007; Tolerance: 20%; Voltage: 10V; Price: 0.51; Device Package: Radial, Can, 10mm
footprint CAP AL TH D10 L5 H14.5
pins: 1, 2

## 10YXJ2200M10X20
designator C?, comment 2200uF  (value not drawn)
CAP ALUM 2200UF 20% 10V RADIAL; Part Number: 10YXJ2200M10X20; Manufacturer: Rubycon; TemperatureRange: -40C ~ 105C; Type: Polar; Ripple Current: 1.4A; Impedance: 46 mOhm; Value: 2200uF; PartId: 25839; Supplier 1: Digi-Key; Supplier Part Number 1: 1189-1068-ND; ComponentLink1Description: Datasheet; ComponentLink1URL: http://www.rubycon.co.jp/en/catalog/e_pdfs/aluminum/e_yxj.pdf; ComponentLink2Description: Digi-Key Listing; ComponentLink2URL: https://www.digikey.com/product-detail/en/rubycon/10YXJ2200M10X20/1189-1068-ND/3134009; Tolerance: 20%; Voltage: 10V; Price: 0.48; Device Package: Radial, Can, 10mm
footprint CAP AL TH D10 L5 H22
pins: 1, 2

## 10ZLH1000MEFC10X12.5
designator C?, comment 1000uF  (value not drawn)
CAP ALUM 1000UF 20% 10V RADIAL; Part Number: 10ZLH1000MEFC10X12.5; Manufacturer: Rubycon; TemperatureRange: -40C ~ 105C; Type: Polar; Ripple Current: 798mA; Impedance: 39 mOhm; Value: 1000uF; PartId: 24901; Supplier 1: Digi-Key; Supplier Part Number 1: 1189-1072-ND; ComponentLink1Description: Datasheet; ComponentLink1URL: http://www.rubycon.co.jp/en/catalog/e_pdfs/aluminum/e_zlh.pdf; ComponentLink2Description: Digi-Key Listing; ComponentLink2URL: https://www.digikey.com/product-detail/en/rubycon/10ZLH1000MEFC10X12.5/1189-1072-ND/3134015; Tolerance: 20%; Voltage: 10V; Price: 0.49; Device Package: Radial, Can, 10mm
footprint CAP AL TH D10 L5 H14.5
pins: 1, 2

## 10ZLH1500MEFC10X16
designator C?, comment 1500uF  (value not drawn)
CAP ALUM 1500UF 20% 10V RADIAL; Part Number: 10ZLH1500MEFC10X16; Manufacturer: Rubycon; TemperatureRange: -40C ~ 105C; Type: Polar; Ripple Current: 1.056A; Impedance: 28 mOhm; Value: 1500uF; PartId: 25279; Supplier 1: Digi-Key; Supplier Part Number 1: 1189-1074-ND; ComponentLink1Description: Datasheet; ComponentLink1URL: http://www.rubycon.co.jp/en/catalog/e_pdfs/aluminum/e_zlh.pdf; ComponentLink2Description: Digi-Key Listing; ComponentLink2URL: https://www.digikey.com/product-detail/en/rubycon/10ZLH1500MEFC10X16/1189-1074-ND/3134018; Tolerance: 20%; Voltage: 10V; Price: 0.62; Device Package: Radial, Can, 10mm
footprint CAP AL TH D10 L5 H17.5
pins: 1, 2

## 10ZLH1800MEFC10X20
designator C?, comment 1800uF  (value not drawn)
CAP ALUM 1800UF 20% 10V RADIAL; Part Number: 10ZLH1800MEFC10X20; Manufacturer: Rubycon; TemperatureRange: -40C ~ 105C; Type: Polar; Ripple Current: 1.176A; Impedance: 20 mOhm; Value: 1800uF; PartId: 25915; Supplier 1: Digi-Key; Supplier Part Number 1: 1189-2951-ND; ComponentLink1Description: Datasheet; ComponentLink1URL: http://www.rubycon.co.jp/en/catalog/e_pdfs/aluminum/e_zlh.pdf; ComponentLink2Description: Digi-Key Listing; ComponentLink2URL: https://www.digikey.com/product-detail/en/rubycon/10ZLH1800MEFC10X20/1189-2951-ND/3563822; Tolerance: 20%; Voltage: 10V; Price: 0.7; Device Package: Radial, Can, 10mm
footprint CAP AL TH D10 L5 H22
pins: 1, 2

## 10ZLH2200MEFC10X23
designator C?, comment 2200uF  (value not drawn)
CAP ALUM 2200UF 20% 10V RADIAL; Part Number: 10ZLH2200MEFC10X23; Manufacturer: Rubycon; TemperatureRange: -40C ~ 105C; Type: Polar; Ripple Current: 1.575A; Impedance: 18 mOhm; Value: 2200uF; PartId: 26129; Supplier 1: Digi-Key; Supplier Part Number 1: 1189-2172-ND; ComponentLink1Description: Datasheet; ComponentLink1URL: http://www.rubycon.co.jp/en/catalog/e_pdfs/aluminum/e_zlh.pdf; ComponentLink2Description: Digi-Key Listing; ComponentLink2URL: https://www.digikey.com/product-detail/en/rubycon/10ZLH2200MEFC10X23/1189-2172-ND/3563866; Tolerance: 20%; Voltage: 10V; Price: 0.8; Device Package: Radial, Can, 10mm
footprint CAP AL TH D10 L5 H30
pins: 1, 2

## 10ZLH3300MEFC12.5X20
designator C?, comment 3300uF  (value not drawn)
CAP ALUM 3300UF 20% 10V RADIAL; Part Number: 10ZLH3300MEFC12.5X20; Manufacturer: Rubycon; TemperatureRange: -40C ~ 105C; Type: Polar; Ripple Current: 1.736A; Impedance: 17 mOhm; Value: 3300uF; PartId: 23453; Supplier 1: Digi-Key; Supplier Part Number 1: 1189-2173-ND; ComponentLink1Description: Datasheet; ComponentLink1URL: http://www.rubycon.co.jp/en/catalog/e_pdfs/aluminum/e_zlh.pdf; ComponentLink2Description: Digi-Key Listing; ComponentLink2URL: https://www.digikey.com/product-detail/en/rubycon/10ZLH3300MEFC12.5X20/1189-2173-ND/3564062; Tolerance: 20%; Voltage: 10V; Price: 1.04; Device Package: Radial, Can, 12.5mm
footprint CAP AL TH D12.5 L5 H22
pins: 1, 2

## 10ZLH3900MEFC12.5X25
designator C?, comment 3900uF  (value not drawn)
CAP ALUM 3900UF 20% 10V RADIAL; Part Number: 10ZLH3900MEFC12.5X25; Manufacturer: Rubycon; TemperatureRange: -40C ~ 105C; Type: Polar; Ripple Current: 2.03A; Impedance: 15 mOhm; Value: 3900uF; PartId: 24002; Supplier 1: Digi-Key; Supplier Part Number 1: 1189-2952-ND; ComponentLink1Description: Datasheet; ComponentLink1URL: http://www.rubycon.co.jp/en/catalog/e_pdfs/aluminum/e_zlh.pdf; ComponentLink2Description: Digi-Key Listing; ComponentLink2URL: https://www.digikey.com/product-detail/en/rubycon/10ZLH3900MEFC12.5X25/1189-2952-ND/3564147; Tolerance: 20%; Voltage: 10V; Price: 1.05; Device Package: Radial, Can, 12.5mm
footprint CAP AL TH D12.5 L5 H27
pins: 1, 2

## 10ZLH4700MEFC16X20
designator C?, comment 4700uF  (value not drawn)
CAP ALUM 4700UF 20% 10V RADIAL; Part Number: 10ZLH4700MEFC16X20; Manufacturer: Rubycon; TemperatureRange: -40C ~ 105C; Type: Polar; Ripple Current: 2.275A; Impedance: 15 mOhm; Value: 4700uF; PartId: 26421; Supplier 1: Digi-Key; Supplier Part Number 1: 1189-2954-ND; ComponentLink1Description: Datasheet; ComponentLink1URL: http://www.rubycon.co.jp/en/catalog/e_pdfs/aluminum/e_zlh.pdf; ComponentLink2Description: Digi-Key Listing; ComponentLink2URL: https://www.digikey.com/product-detail/en/rubycon/10ZLH4700MEFC16X20/1189-2954-ND/3564405; Tolerance: 20%; Voltage: 10V; Price: 1.24; Device Package: Radial, Can, 16mm
footprint CAP AL TH D16 L7.5 H22
pins: 1, 2

## 10ZLH6800MEFC16X25
designator C?, comment 6800uF  (value not drawn)
CAP ALUM 6800UF 20% 10V RADIAL; Part Number: 10ZLH6800MEFC16X25; Manufacturer: Rubycon; TemperatureRange: -40C ~ 105C; Type: Polar; Ripple Current: 2.541A; Impedance: 13 mOhm; Value: 6800uF; PartId: 26892; Supplier 1: Digi-Key; Supplier Part Number 1: 1189-2956-ND; ComponentLink1Description: Datasheet; ComponentLink1URL: http://www.rubycon.co.jp/en/catalog/e_pdfs/aluminum/e_zlh.pdf; ComponentLink2Description: Digi-Key Listing; ComponentLink2URL: https://www.digikey.com/product-detail/en/rubycon/10ZLH6800MEFC16X25/1189-2956-ND/3564489; Tolerance: 20%; Voltage: 10V; Price: 1.4; Device Package: Radial, Can, 16mm
footprint CAP AL TH D16 L7.5 H27
pins: 1, 2

## 10ZLJ820MT810X12.5
designator C?, comment 820uF  (value not drawn)
CAP ALUM 820UF 20% 10V RADIAL; Part Number: 10ZLJ820MT810X12.5; Manufacturer: Rubycon; TemperatureRange: -40C ~ 105C; Type: Polar; Ripple Current: 1.02A @ 120Hz; Impedance: 53 mOhm; Value: 820uF; PartId: 24601; Supplier 1: Digi-Key; Supplier Part Number 1: 1189-1530-2-ND; ComponentLink1Description: Datasheet; ComponentLink1URL: http://www.rubycon.co.jp/en/catalog/e_pdfs/aluminum/e_zlj.pdf; ComponentLink2Description: Digi-Key Listing; ComponentLink2URL: https://www.digikey.com/product-detail/en/rubycon/10ZLJ820MT810X12.5/1189-1530-2-ND/3134810; Tolerance: 20%; Voltage: 10V; Price: 0.1772; Device Package: Radial, Can, 10mm
footprint CAP AL TH D10 L5 H14.5
pins: 1, 2

## 10ZLJ1200M10X16
designator C?, comment 1200uF  (value not drawn)
CAP ALUM 1200UF 20% 10V RADIAL; Part Number: 10ZLJ1200M10X16; Manufacturer: Rubycon; TemperatureRange: -40C ~ 105C; Type: Polar; Ripple Current: 1.2A @ 120Hz; Impedance: 38 mOhm; Value: 1200uF; PartId: 25350; Supplier 1: Digi-Key; Supplier Part Number 1: 1189-1077-ND; ComponentLink1Description: Datasheet; ComponentLink1URL: http://www.rubycon.co.jp/en/catalog/e_pdfs/aluminum/e_zlj.pdf; ComponentLink2Description: Digi-Key Listing; ComponentLink2URL: https://www.digikey.com/product-detail/en/rubycon/10ZLJ1200M10X16/1189-1077-ND/3134023; Tolerance: 20%; Voltage: 10V; Price: 0.68; Device Package: Radial, Can, 10mm
footprint CAP AL TH D10 L5 H17.5
pins: 1, 2

## 10ZLJ1800M10X20
designator C?, comment 1800uF  (value not drawn)
CAP ALUM 1800UF 20% 10V RADIAL; Part Number: 10ZLJ1800M10X20; Manufacturer: Rubycon; TemperatureRange: -40C ~ 105C; Type: Polar; Ripple Current: 1.5A @ 120Hz; Impedance: 28 mOhm; Value: 1800uF; PartId: 25930; Supplier 1: Digi-Key; Supplier Part Number 1: 1189-2175-ND; ComponentLink1Description: Datasheet; ComponentLink1URL: http://www.rubycon.co.jp/en/catalog/e_pdfs/aluminum/e_zlj.pdf; ComponentLink2Description: Digi-Key Listing; ComponentLink2URL: https://www.digikey.com/product-detail/en/rubycon/10ZLJ1800M10X20/1189-2175-ND/3563826; Tolerance: 20%; Voltage: 10V; Price: 0.73; Device Package: Radial, Can, 10mm
footprint CAP AL TH D10 L5 H22
pins: 1, 2

## 10ZLJ2200MT810X25
designator C?, comment 2200uF  (value not drawn)
CAP ALUM 2200UF 20% 10V RADIAL; Part Number: 10ZLJ2200MT810X25; Manufacturer: Rubycon; TemperatureRange: -40C ~ 105C; Type: Polar; Ripple Current: 2.03A @ 120Hz; Impedance: 24 mOhm; Value: 2200uF; PartId: 26015; Supplier 1: Digi-Key; Supplier Part Number 1: 1189-1529-3-ND; ComponentLink1Description: Datasheet; ComponentLink1URL: http://www.rubycon.co.jp/en/catalog/e_pdfs/aluminum/e_zlj.pdf; ComponentLink2Description: Digi-Key Listing; ComponentLink2URL: https://www.digikey.com/product-detail/en/rubycon/10ZLJ2200MT810X25/1189-1529-3-ND/3134809; Tolerance: 20%; Voltage: 10V; Price: 0.3085; Device Package: Radial, Can, 10mm
footprint CAP AL TH D10 L5 H30
pins: 1, 2

## 10ZLJ3300M12.5X25
designator C?, comment 3300uF  (value not drawn)
CAP ALUM 3300UF 20% 10V RADIAL; Part Number: 10ZLJ3300M12.5X25; Manufacturer: Rubycon; TemperatureRange: -40C ~ 105C; Type: Polar; Ripple Current: 2.24A @ 120Hz; Impedance: 19 mOhm; Value: 3300uF; PartId: 24046; Supplier 1: Digi-Key; Supplier Part Number 1: 1189-2176-ND; ComponentLink1Description: Datasheet; ComponentLink1URL: http://www.rubycon.co.jp/en/catalog/e_pdfs/aluminum/e_zlj.pdf; ComponentLink2Description: Digi-Key Listing; ComponentLink2URL: https://www.digikey.com/product-detail/en/rubycon/10ZLJ3300M12.5X25/1189-2176-ND/3564154; Tolerance: 20%; Voltage: 10V; Price: 1.14; Device Package: Radial, Can, 12.5mm
footprint CAP AL TH D12.5 L5 H27
pins: 1, 2

## 10ZLQ1200MEFC10X12.5
designator C?, comment 1200uF  (value not drawn)
CAP ALUM 1200UF 20% 10V T/H; Part Number: 10ZLQ1200MEFC10X12.5; Manufacturer: Rubycon; TemperatureRange: -40C ~ 105C; Type: Polar; Ripple Current: 882mA @ 120Hz; Impedance: 35 mOhm; Value: 1200uF; PartId: 24980; Supplier 1: Digi-Key; Supplier Part Number 1: 1189-3615-ND; ComponentLink1Description: Datasheet; ComponentLink1URL: http://www.rubycon.co.jp/en/catalog/e_pdfs/aluminum/e_ZLQ.pdf; ComponentLink2Description: Digi-Key Listing; ComponentLink2URL: https://www.digikey.com/product-detail/en/rubycon/10ZLQ1200MEFC10X12.5/1189-3615-ND/6049862; Tolerance: 20%; Voltage: 10V; Price: 0.54; Device Package: Radial, Can, 10mm
footprint CAP AL TH D10 L5 H14.5
pins: 1, 2

## 10ZLQ1800MEFC10X16
designator C?, comment 1800uF  (value not drawn)
CAP ALUM 1800UF 20% 10V T/H; Part Number: 10ZLQ1800MEFC10X16; Manufacturer: Rubycon; TemperatureRange: -40C ~ 105C; Type: Polar; Ripple Current: 1.158A @ 120Hz; Impedance: 25 mOhm; Value: 1800uF; PartId: 25444; Supplier 1: Digi-Key; Supplier Part Number 1: 1189-3617-ND; ComponentLink1Description: Datasheet; ComponentLink1URL: http://www.rubycon.co.jp/en/catalog/e_pdfs/aluminum/e_ZLQ.pdf; ComponentLink2Description: Digi-Key Listing; ComponentLink2URL: https://www.digikey.com/product-detail/en/rubycon/10ZLQ1800MEFC10X16/1189-3617-ND/6049864; Tolerance: 20%; Voltage: 10V; Price: 0.66; Device Package: Radial, Can, 10mm
footprint CAP AL TH D10 L5 H17.5
pins: 1, 2

## 10ZLQ2700MEFC10X20
designator C?, comment 2700uF  (value not drawn)
CAP ALUM 2700UF 20% 10V T/H; Part Number: 10ZLQ2700MEFC10X20; Manufacturer: Rubycon; TemperatureRange: -40C ~ 105C; Type: Polar; Ripple Current: 1.491A @ 120Hz; Impedance: 18 mOhm; Value: 2700uF; PartId: 25897; Supplier 1: Digi-Key; Supplier Part Number 1: 1189-3618-ND; ComponentLink1Description: Datasheet; ComponentLink1URL: http://www.rubycon.co.jp/en/catalog/e_pdfs/aluminum/e_ZLQ.pdf; ComponentLink2Description: Digi-Key Listing; ComponentLink2URL: https://www.digikey.com/product-detail/en/rubycon/10ZLQ2700MEFC10X20/1189-3618-ND/6049865; Tolerance: 20%; Voltage: 10V; Price: 0.67; Device Package: Radial, Can, 10mm
footprint CAP AL TH D10 L5 H22
pins: 1, 2

## 10ZLQ3300MEFC10X25
designator C?, comment 3300uF  (value not drawn)
CAP ALUM 3300UF 20% 10V T/H; Part Number: 10ZLQ3300MEFC10X25; Manufacturer: Rubycon; TemperatureRange: -40C ~ 105C; Type: Polar; Ripple Current: 1.75A @ 120Hz; Impedance: 15 mOhm; Value: 3300uF; PartId: 26149; Supplier 1: Digi-Key; Supplier Part Number 1: 1189-3619-ND; ComponentLink1Description: Datasheet; ComponentLink1URL: http://www.rubycon.co.jp/en/catalog/e_pdfs/aluminum/e_ZLQ.pdf; ComponentLink2Description: Digi-Key Listing; ComponentLink2URL: https://www.digikey.com/product-detail/en/rubycon/10ZLQ3300MEFC10X25/1189-3619-ND/6049998; Tolerance: 20%; Voltage: 10V; Price: 0.84; Device Package: Radial, Can, 10mm
footprint CAP AL TH D10 L5 H30
pins: 1, 2

## 10ZLQ3900MEFC12.5X20
designator C?, comment 3900uF  (value not drawn)
CAP ALUM 3900UF 20% 10V T/H; Part Number: 10ZLQ3900MEFC12.5X20; Manufacturer: Rubycon; TemperatureRange: -40C ~ 105C; Type: Polar; Ripple Current: 1.883A @ 120Hz; Impedance: 16 mOhm; Value: 3900uF; PartId: 23399; Supplier 1: Digi-Key; Supplier Part Number 1: 1189-3620-ND; ComponentLink1Description: Datasheet; ComponentLink1URL: http://www.rubycon.co.jp/en/catalog/e_pdfs/aluminum/e_ZLQ.pdf; ComponentLink2Description: Digi-Key Listing; ComponentLink2URL: https://www.digikey.com/product-detail/en/rubycon/10ZLQ3900MEFC12.5X20/1189-3620-ND/6049999; Tolerance: 20%; Voltage: 10V; Price: 0.97; Device Package: Radial, Can, 12.5mm
footprint CAP AL TH D12.5 L5 H22
pins: 1, 2

## 10ZLQ5600MEFC12.5X25
designator C?, comment 5600uF  (value not drawn)
CAP ALUM 5600UF 20% 10V T/H; Part Number: 10ZLQ5600MEFC12.5X25; Manufacturer: Rubycon; TemperatureRange: -40C ~ 105C; Type: Polar; Ripple Current: 2.198A @ 120Hz; Impedance: 13 mOhm; Value: 5600uF; PartId: 23995; Supplier 1: Digi-Key; Supplier Part Number 1: 1189-3621-ND; ComponentLink1Description: Datasheet; ComponentLink1URL: http://www.rubycon.co.jp/en/catalog/e_pdfs/aluminum/e_ZLQ.pdf; ComponentLink2Description: Digi-Key Listing; ComponentLink2URL: https://www.digikey.com/product-detail/en/rubycon/10ZLQ5600MEFC12.5X25/1189-3621-ND/6050000; Tolerance: 20%; Voltage: 10V; Price: 1.04; Device Package: Radial, Can, 12.5mm
footprint CAP AL TH D12.5 L5 H27
pins: 1, 2

## 10ZLQ6800MEFC12.5X30
designator C?, comment 6800uF  (value not drawn)
CAP ALUM 6800UF 20% 10V T/H; Part Number: 10ZLQ6800MEFC12.5X30; Manufacturer: Rubycon; TemperatureRange: -40C ~ 105C; Type: Polar; Ripple Current: 2.576A @ 120Hz; Impedance: 12 mOhm; Value: 6800uF; PartId: 24333; Supplier 1: Digi-Key; Supplier Part Number 1: 1189-3622-ND; ComponentLink1Description: Datasheet; ComponentLink1URL: http://www.rubycon.co.jp/en/catalog/e_pdfs/aluminum/e_ZLQ.pdf; ComponentLink2Description: Digi-Key Listing; ComponentLink2URL: https://www.digikey.com/product-detail/en/rubycon/10ZLQ6800MEFC12.5X30/1189-3622-ND/6050001; Tolerance: 20%; Voltage: 10V; Price: 1.3; Device Package: Radial, Can, 12.5mm
footprint CAP AL TH D12.5 L5 H35.5
pins: 1, 2

## 10ZLQ6800MEFC16X20
designator C?, comment 6800uF  (value not drawn)
CAP ALUM 6800UF 20% 10V T/H; Part Number: 10ZLQ6800MEFC16X20; Manufacturer: Rubycon; TemperatureRange: -40C ~ 105C; Type: Polar; Ripple Current: 2.45A @ 120Hz; Impedance: 14 mOhm; Value: 6800uF; PartId: 26444; Supplier 1: Digi-Key; Supplier Part Number 1: 1189-3623-ND; ComponentLink1Description: Datasheet; ComponentLink1URL: http://www.rubycon.co.jp/en/catalog/e_pdfs/aluminum/e_ZLQ.pdf; ComponentLink2Description: Digi-Key Listing; ComponentLink2URL: https://www.digikey.com/product-detail/en/rubycon/10ZLQ6800MEFC16X20/1189-3623-ND/6050185; Tolerance: 20%; Voltage: 10V; Price: 1.43; Device Package: Radial, Can, 16mm
footprint CAP AL TH D16 L7.5 H22
pins: 1, 2

## 10ZLQ8200MEFC16X25
designator C?, comment 8200uF  (value not drawn)
CAP ALUM 8200UF 20% 10V T/H; Part Number: 10ZLQ8200MEFC16X25; Manufacturer: Rubycon; TemperatureRange: -40C ~ 105C; Type: Polar; Ripple Current: 2.716A @ 120Hz; Impedance: 11 mOhm; Value: 8200uF; PartId: 26899; Supplier 1: Digi-Key; Supplier Part Number 1: 1189-3625-ND; ComponentLink1Description: Datasheet; ComponentLink1URL: http://www.rubycon.co.jp/en/catalog/e_pdfs/aluminum/e_ZLQ.pdf; ComponentLink2Description: Digi-Key Listing; ComponentLink2URL: https://www.digikey.com/product-detail/en/rubycon/10ZLQ8200MEFC16X25/1189-3625-ND/6050186; Tolerance: 20%; Voltage: 10V; Price: 1.53; Device Package: Radial, Can, 16mm
footprint CAP AL TH D16 L7.5 H27
pins: 1, 2

## 10ZLS1000MEFC10X12.5
designator C?, comment 1000uF  (value not drawn)
CAP ALUM 1000UF 20% 10V RADIAL; Part Number: 10ZLS1000MEFC10X12.5; Manufacturer: Rubycon; TemperatureRange: -40C ~ 105C; Type: Polar; Ripple Current: 744mA; Impedance: 45 mOhm; Value: 1000uF; PartId: 24966; Supplier 1: Digi-Key; Supplier Part Number 1: 1189-2561-ND; ComponentLink1Description: Datasheet; ComponentLink1URL: http://www.rubycon.co.jp/en/catalog/e_pdfs/aluminum/e_zls.pdf; ComponentLink2Description: Digi-Key Listing; ComponentLink2URL: https://www.digikey.com/product-detail/en/rubycon/10ZLS1000MEFC10X12.5/1189-2561-ND/4977108; Tolerance: 20%; Voltage: 10V; Price: 0.53; Device Package: Radial, Can, 10mm
footprint CAP AL TH D10 L5 H14.5
pins: 1, 2